# Altium footprint library 330uF Capacitor 35V.PcbLib: 2 footprints
Each footprint in its own frame and in the unit in brackets; x right, y up, seen from the top. Pads: shape width x height; smd on the part's side, far side on the other; paste and mask are expansions set on the pad; w line width, h text height; cw(c..) or ccw(c..) is an arc to the next point about the centre after c.
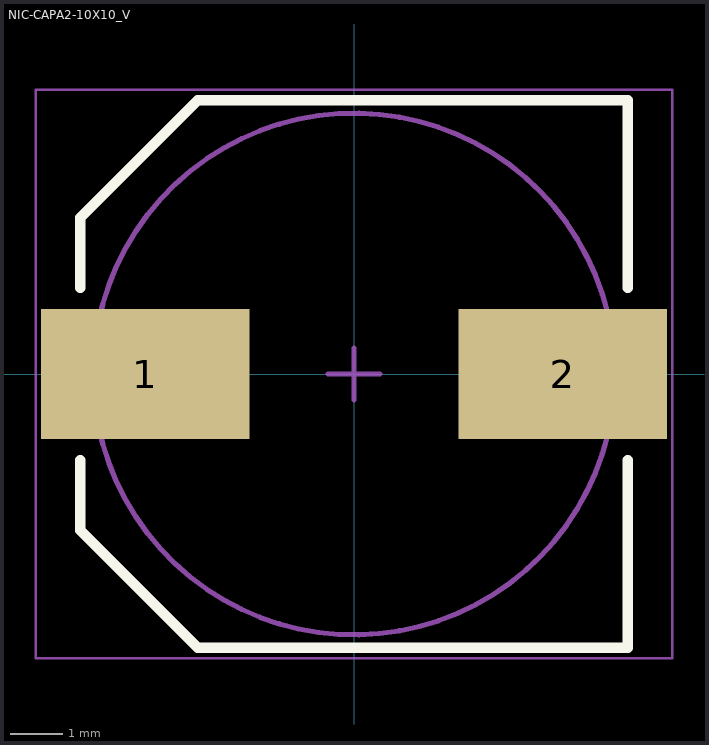
[diagram p0: the footprints below, top view; thin cyan lines are the x and y axes]

## NIC-CAPA2-10X10_V [mm] "Aluminum Electrolytic Capacitor, Diameter 10mm, Height 10.8mm, Pitch 8mm"
height 10.8
pads (2):
  rect 4x2.5 smd: 1(-4,0) 2(4,0)
Top Overlay:
  lines w0.2: -5.25,-1.65 -5.25,-3 -3,-5.25 5.25,-5.25 5.25,-1.65 ; -5.25,1.65 -5.25,3 -3,5.25 5.25,5.25 5.25,1.65
Mechanical 13:
  circle w0.1: c0,0 r5
Mechanical 15:
  lines w0.05: -6.1,-5.45 -6.1,5.45 6.1,5.45 6.1,-5.45 -6.1,-5.45
  lines w0.1: -0.5,0 0.5,0 ; 0,-0.5 0,0.5
3D body: height 10.8, standoff 0, extent -4.96,-4.99 5,4.99

## PCBComponent_1 [mm]